# Altium footprint library PCB - CONNECTOR - HARWIN - HARWIN M20-7830945.PcbLib: 1 footprints
Each footprint in its own frame and in the unit in brackets; x right, y up, seen from the top. Pads: shape width x height; smd on the part's side, far side on the other; paste and mask are expansions set on the pad; w line width, h text height; cw(c..) or ccw(c..) is an arc to the next point about the centre after c.
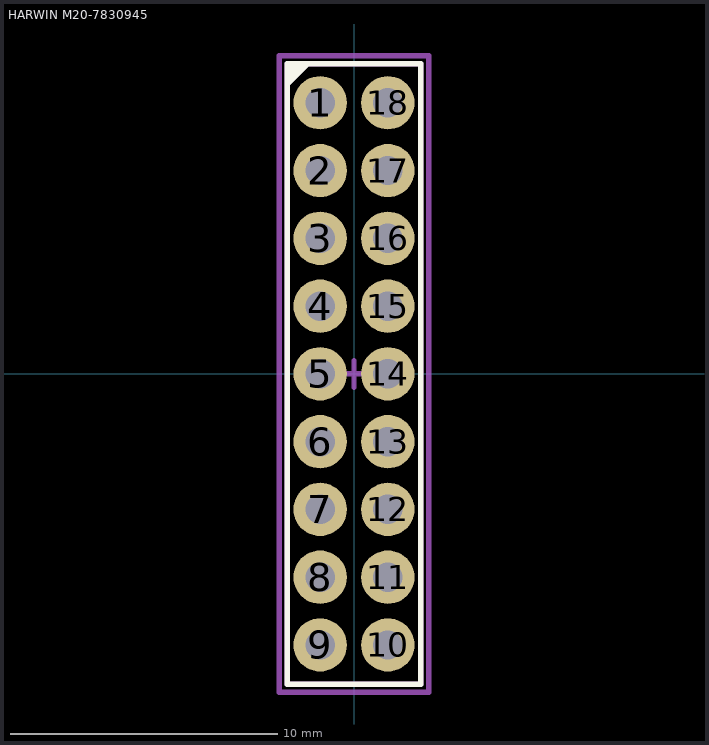
[diagram p0: the footprint, top view; thin cyan lines are the x and y axes]

## HARWIN M20-7830945 [mm] "2.54mm DIL PC TAIL PIN HEADER ASSEMBLY"
height 5
pads (18):
  round 2 hole 1.1: 1(-1.27,10.16) 2(-1.27,7.62) 3(-1.27,5.08) 4(-1.27,2.54) 5(-1.27,0) 6(-1.27,-2.54) 7(-1.27,-5.08) 8(-1.27,-7.62) 9(-1.27,-10.16) 10(1.27,-10.16) 11(1.27,-7.62) 12(1.27,-5.08) 13(1.27,-2.54) 14(1.27,0) 15(1.27,2.54) 16(1.27,5.08) 17(1.27,7.62) 18(1.27,10.16)
Top Overlay:
  region: -2.5,11.62 -2.5,10.72 -1.6,11.62
  lines w0.2: -2.5,-11.63 -2.5,11.62 2.5,11.62 2.5,-11.63 -2.5,-11.63
Top Assembly:
  lines w0.2: -0.5,0 0.5,0 ; 0,-0.5 0,0.5 ; -2.5,-11.63 -2.5,11.62 2.5,11.62 2.5,-11.63 -2.5,-11.63
Top Courtyard (Mech15):
  lines w0.2: -2.8,-11.93 -2.8,11.92 2.8,11.92 2.8,-11.93 -2.8,-11.93
3D body "M20-7830942.step": height 8.5, standoff -3, extent -2.52,-11.63 2.52,11.63